# EAGLE library part ATTINY87 (library Atmel_AVR8)
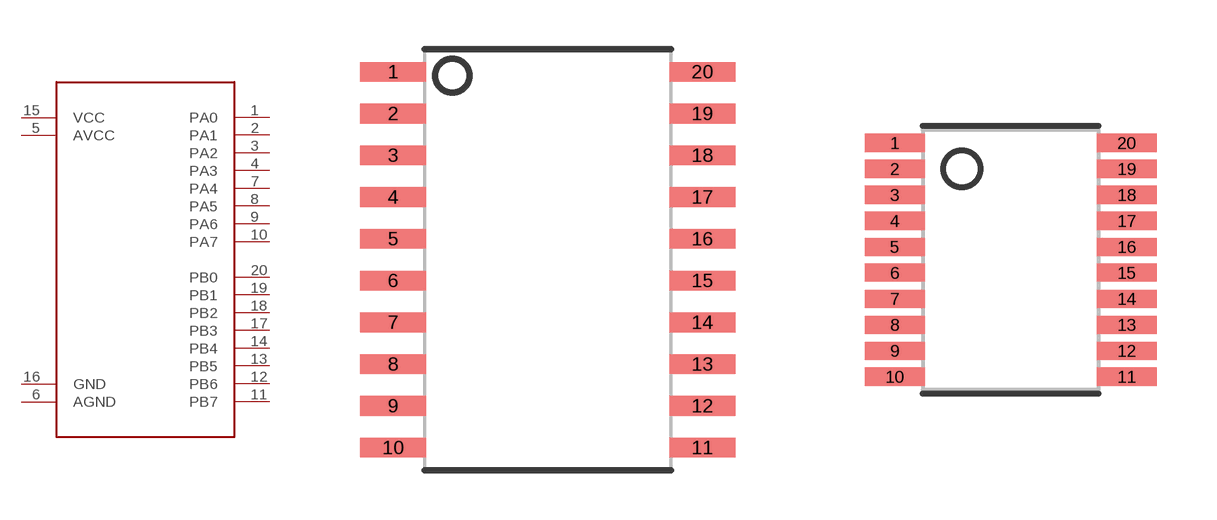
[diagram p5: symbol with the pads of 20S2; footprints 20S2, 20X]

Designator prefix U

## ATTINY87-SU  [20S2]
1  PA0
2  PA1
3  PA2
4  PA3
5  AVCC  pwr
6  AGND  pas
7  PA4
8  PA5
9  PA6
10  PA7
11  PB7
12  PB6
13  PB5
14  PB4
15  VCC  pwr
16  GND  pas
17  PB3
18  PB2
19  PB1
20  PB0

## ATTINY87-XU  [20X]
Pads as for 20S2

## ATTINY87-MU  [32PN]
3  PA3
4  AVCC  pwr
5  AGND  pas
9  PA4
10  PA5
11  PA6
12  PA7
14  PB7
15  PB6
18  PB5
19  PB4
20  VCC  pwr
21  GND  pas
25  PB3
26  PB2
27  PB1
28  PB0
29  PA0
30  PA1
31  PA2
PAD  GND  pas

## ATTINY87-A15SZ  [20S2]
Pads as for 20S2

## ATTINY87-A15MZ  [32PN]
Pads as for 32PN

## ATTINY87-A15XZ  [20X]
Pads as for 20S2

## Footprint 20S2 (pad centres in mm)
20-lead, 0.300" Wide, Plastic Gull Wing Small Outline Package (SOIC) Atmel PCB Mounting Guidelines for Surface Mount Packages, Page 6 <http://www.atmel.com/images/atmel-8826-seeprom-pcb-mounting-guidelines-surface-mount-packages-applicationnote.pdf#page=6>
smd 2 x 0.6: 1 -4.7,5.715; 2 -4.7,4.445; 3 -4.7,3.175; 4 -4.7,1.905; 5 -4.7,0.635; 6 -4.7,-0.635; 7 -4.7,-1.905; 8 -4.7,-3.175; 9 -4.7,-4.445; 10 -4.7,-5.715; 11 4.7,-5.715; 12 4.7,-4.445; 13 4.7,-3.175; 14 4.7,-1.905; 15 4.7,-0.635; 16 4.7,0.635; 17 4.7,1.905; 18 4.7,3.175; 19 4.7,4.445; 20 4.7,5.715

## Footprint 20X (pad centres in mm)
20-lead, 4.4 mm Wide, Plastic Thin Shrink Small Outline Package (TSSOP) Atmel PCB Mounting Guidelines for Surface Mount Packages, Page 7 <http://www.atmel.com/images/atmel-8826-seeprom-pcb-mounting-guidelines-surface-mount-packages-applicationnote.pdf#page=7>
smd 1.5 x 0.45: 1 -2.9,2.925; 2 -2.9,2.275; 3 -2.9,1.625; 4 -2.9,0.975; 5 -2.9,0.325; 6 -2.9,-0.325; 7 -2.9,-0.975; 8 -2.9,-1.625; 9 -2.9,-2.275; 10 -2.9,-2.925; 11 2.9,-2.925; 12 2.9,-2.275; 13 2.9,-1.625; 14 2.9,-0.975; 15 2.9,-0.325; 16 2.9,0.325; 17 2.9,0.975; 18 2.9,1.625; 19 2.9,2.275; 20 2.9,2.925

## Footprint 32PN (pad centres in mm)
32-lead, 0.5mm pitch, 5 x 5 mm Very Thin Quad Flat No Lead Package (VQFN) Sawn Atmel PCB Mounting Guidelines for Surface Mount Packages, Page 12 <http://www.atmel.com/images/atmel-8826-seeprom-pcb-mounting-guidelines-surface-mount-packages-applicationnote.pdf#page=12>
smd 0.8 x 0.3: 1 -2.5,1.75; 2 -2.5,1.25; 3 -2.5,0.75; 4 -2.5,0.25; 5 -2.5,-0.25; 6 -2.5,-0.75; 7 -2.5,-1.25; 8 -2.5,-1.75; 17 2.5,-1.75; 18 2.5,-1.25; 19 2.5,-0.75; 20 2.5,-0.25; 21 2.5,0.25; 22 2.5,0.75; 23 2.5,1.25; 24 2.5,1.75
smd 0.3 x 0.8: 9 -1.75,-2.5; 10 -1.25,-2.5; 11 -0.75,-2.5; 12 -0.25,-2.5; 13 0.25,-2.5; 14 0.75,-2.5; 15 1.25,-2.5; 16 1.75,-2.5; 25 1.75,2.5; 26 1.25,2.5; 27 0.75,2.5; 28 0.25,2.5; 29 -0.25,2.5; 30 -0.75,2.5; 31 -1.25,2.5; 32 -1.75,2.5
smd 3.8 x 3.8: PAD 0,0